# Altium schematic symbol library 621 3xx 210 21.SchLib: 11 symbols
Pins are listed as number, name and electrical type; pins without a type are passive.

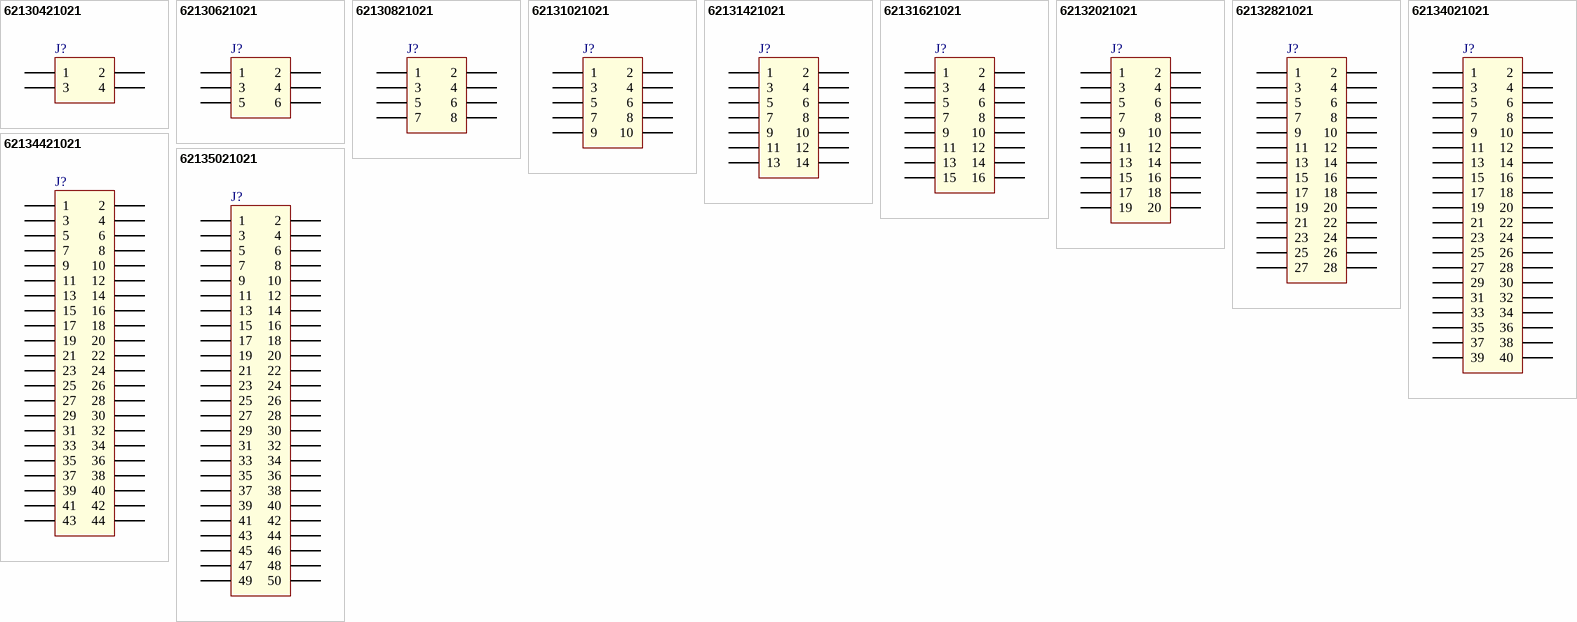
[diagram p0: symbols 62130421021 to 62135021021]

## 62130421021
designator J?
WR-PHD 1.27 mm SMD Dual Pin Header, H=3.80mm (Reel), 4p; Part Number: 62130421021; Pitch: 1.27 mm; Pin Number: 4; ComponentLink1Description: Manufacturer; ComponentLink1URL: http://www.we-online.de; ComponentLink2Description: Datasheet; ComponentLink2URL: http://katalog.we-online.de/em/datasheet/6213xx21021.pdf; Published Date: April 2017; Publisher: Wurth Elektronik
footprint 62130421021 (SMD Dual Pin Header, H=3.80mm (Reel), 4p)
pins: 1, 2, 3, 4

## 62130621021
designator J?
WR-PHD 1.27 mm SMD Dual Pin Header, H=3.80mm (Reel), 6p; Part Number: 62130621021; Pitch: 1.27 mm; Pin Number: 6; ComponentLink1Description: Manufacturer; ComponentLink1URL: http://www.we-online.de; ComponentLink2Description: Datasheet; ComponentLink2URL: http://katalog.we-online.de/em/datasheet/6213xx21021.pdf; Published Date: April 2017; Publisher: Wurth Elektronik
footprint 62130621021 (SMD Dual Pin Header, H=3.80mm (Reel), 6p)
pins: 1, 2, 3, 4, 5, 6

## 62130821021
designator J?
WR-PHD 1.27 mm SMD Dual Pin Header, H=3.80mm (Reel), 8p; Part Number: 62130821021; Pitch: 1.27 mm; Pin Number: 8; ComponentLink1Description: Manufacturer; ComponentLink1URL: http://www.we-online.de; ComponentLink2Description: Datasheet; ComponentLink2URL: http://katalog.we-online.de/em/datasheet/6213xx21021.pdf; Published Date: April 2017; Publisher: Wurth Elektronik
footprint 62130821021 (SMD Dual Pin Header, H=3.80mm (Reel), 8p)
pins: 1, 2, 3, 4, 5, 6, 7, 8

## 62131021021
designator J?
WR-PHD 1.27 mm SMD Dual Pin Header, H=3.80mm (Reel), 10p; Part Number: 62131021021; Pitch: 1.27 mm; Pin Number: 10; ComponentLink1Description: Manufacturer; ComponentLink1URL: http://www.we-online.de; ComponentLink2Description: Datasheet; ComponentLink2URL: http://katalog.we-online.de/em/datasheet/6213xx21021.pdf; Published Date: April 2017; Publisher: Wurth Elektronik
footprint 62131021021 (SMD Dual Pin Header, H=3.80mm (Reel), 10p)
pins: 1, 2, 3, 4, 5, 6, 7, 8, 9, 10

## 62131421021
designator J?
WR-PHD 1.27 mm SMD Dual Pin Header, H=3.80mm (Reel), 14p; Part Number: 62131421021; Pitch: 1.27 mm; Pin Number: 14; ComponentLink1Description: Manufacturer; ComponentLink1URL: http://www.we-online.de; ComponentLink2Description: Datasheet; ComponentLink2URL: http://katalog.we-online.de/em/datasheet/6213xx21021.pdf; Published Date: April 2017; Publisher: Wurth Elektronik
footprint 62131421021 (SMD Dual Pin Header, H=3.80mm (Reel), 14p)
pins: 1, 2, 3, 4, 5, 6, 7, 8, 9, 10, 11, 12, 13, 14

## 62131621021
designator J?
WR-PHD 1.27 mm SMD Dual Pin Header, H=3.80mm (Reel), 16p; Part Number: 62131621021; Pitch: 1.27 mm; Pin Number: 16; ComponentLink1Description: Manufacturer; ComponentLink1URL: http://www.we-online.de; ComponentLink2Description: Datasheet; ComponentLink2URL: http://katalog.we-online.de/em/datasheet/6213xx21021.pdf; Published Date: April 2017; Publisher: Wurth Elektronik
footprint 62131621021 (SMD Dual Pin Header, H=3.80mm (Reel), 16p)
pins: 1, 2, 3, 4, 5, 6, 7, 8, 9, 10, 11, 12, 13, 14, 15, 16

## 62132021021
designator J?
WR-PHD 1.27 mm SMD Dual Pin Header, H=3.80mm (Reel), 20p; Part Number: 62132021021; Pitch: 1.27 mm; Pin Number: 20; ComponentLink1Description: Manufacturer; ComponentLink1URL: http://www.we-online.de; ComponentLink2Description: Datasheet; ComponentLink2URL: http://katalog.we-online.de/em/datasheet/6213xx21021.pdf; Published Date: April 2017; Publisher: Wurth Elektronik
footprint 62132021021 (SMD Dual Pin Header, H=3.80mm (Reel), 20p)
pins: 1, 2, 3, 4, 5, 6, 7, 8, 9, 10, 11, 12, 13, 14, 15, 16, 17, 18, 19, 20

## 62132821021
designator J?
WR-PHD 1.27 mm SMD Dual Pin Header, H=3.80mm (Reel), 28p; Part Number: 62132821021; Pitch: 1.27 mm; Pin Number: 28; ComponentLink1Description: Manufacturer; ComponentLink1URL: http://www.we-online.de; ComponentLink2Description: Datasheet; ComponentLink2URL: http://katalog.we-online.de/em/datasheet/6213xx21021.pdf; Published Date: April 2017; Publisher: Wurth Elektronik
footprint 62132821021 (SMD Dual Pin Header, H=3.80mm (Reel), 28p)
pins: 1, 2, 3, 4, 5, 6, 7, 8, 9, 10, 11, 12, 13, 14, 15, 16, 17, 18, 19, 20, 21, 22, 23, 24, 25, 26, 27, 28

## 62134021021
designator J?
WR-PHD 1.27 mm SMD Dual Pin Header, H=3.80mm (Reel), 40p; Part Number: 62134021021; Pitch: 1.27 mm; Pin Number: 40; ComponentLink1Description: Manufacturer; ComponentLink1URL: http://www.we-online.de; ComponentLink2Description: Datasheet; ComponentLink2URL: http://katalog.we-online.de/em/datasheet/6213xx21021.pdf; Published Date: April 2017; Publisher: Wurth Elektronik
footprint 62134021021 (SMD Dual Pin Header, H=3.80mm (Reel), 40p)
pins: 1, 2, 3, 4, 5, 6, 7, 8, 9, 10, 11, 12, 13, 14, 15, 16, 17, 18, 19, 20, 21, 22, 23, 24, 25, 26, 27, 28, 29, 30, 31, 32, 33, 34, 35, 36, 37, 38, 39, 40

## 62134421021
designator J?
WR-PHD 1.27 mm SMD Dual Pin Header, H=3.80mm (Reel), 44p; Part Number: 62134421021; Pitch: 1.27 mm; Pin Number: 44; ComponentLink1Description: Manufacturer; ComponentLink1URL: http://www.we-online.de; ComponentLink2Description: Datasheet; ComponentLink2URL: http://katalog.we-online.de/em/datasheet/6213xx21021.pdf; Published Date: April 2017; Publisher: Wurth Elektronik
footprint 62134421021 (SMD Dual Pin Header, H=3.80mm (Reel), 44p)
pins: 1, 2, 3, 4, 5, 6, 7, 8, 9, 10, 11, 12, 13, 14, 15, 16, 17, 18, 19, 20, 21, 22, 23, 24, 25, 26, 27, 28, 29, 30, 31, 32, 33, 34, 35, 36, 37, 38, 39, 40, 41, 42, 43, 44

## 62135021021
designator J?
WR-PHD 1.27 mm SMD Dual Pin Header, H=3.80mm (Reel), 50p; Part Number: 62135021021; Pitch: 1.27 mm; Pin Number: 50; ComponentLink1Description: Manufacturer; ComponentLink1URL: http://www.we-online.de; ComponentLink2Description: Datasheet; ComponentLink2URL: http://katalog.we-online.de/em/datasheet/6213xx21021.pdf; Published Date: April 2017; Publisher: Wurth Elektronik
footprint 62135021021 (SMD Dual Pin Header, H=3.80mm (Reel), 50p)
pins: 1, 2, 3, 4, 5, 6, 7, 8, 9, 10, 11, 12, 13, 14, 15, 16, 17, 18, 19, 20, 21, 22, 23, 24, 25, 26, 27, 28, 29, 30, 31, 32, 33, 34, 35, 36, 37, 38, 39, 40, 41, 42, 43, 44, 45, 46, 47, 48, 49, 50